# EAGLE library part 6250XX22121_62502622121 (library WR-BHD)
WR-BHD 2.00 mm Male Characteristics Rated current: 2 A Working Voltage: 250 V UL approval: E323964 UL94-V0 Applications Industrial Production lines Details see: www.we-online.com/components/products/WTB_WR_BHD_BOX_HEADER_2_00MM_MALE Updated by Ella 2026-09-16 2026 (C) Würth Elektronik
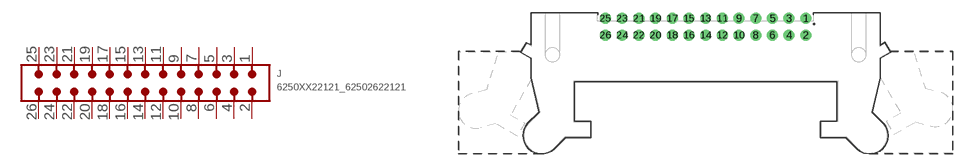
[diagram p20: symbol with the pads of 62502622121; footprint 62502622121]

Designator prefix J

## 6250XX22121_62502622121 (CATEGORY: Connectors; DATASHEET: https://www.we-online.com/redexpert/spec/62502622121?ae; GENDER: Male; LENGTH: 41.7 mm; MANUFACTURER: Würth Elektronik; MOUNT: THT; MPN: 62502622121; OPERATING_TEMPERATURE: -40 °C up to +125 °C; PACKAGING: Tray; PINS: 26; PITCH: 2mm; RATED_CURRENT: 2 A; SIZE: THT Angled; TYPE: Angled; VALUE: 62502622121; VERSION: With locking lever)  [62502622121]
1  1  pas
2  2  pas
3  3  pas
4  4  pas
5  5  pas
6  6  pas
7  7  pas
8  8  pas
9  9  pas
10  10  pas
11  11  pas
12  12  pas
13  13  pas
14  14  pas
15  15  pas
16  16  pas
17  17  pas
18  18  pas
19  19  pas
20  20  pas
21  21  pas
22  22  pas
23  23  pas
24  24  pas
25  25  pas
26  26  pas

## Footprint 62502622121 (pad centres in mm)
WR-BHD Wire-to-Board Connectors, 2mm, Male, THT Angled, 26pins
drill 0.8: 1 12,3.4; 2 12,1.4; 3 10,3.4; 4 10,1.4; 5 8,3.4; 6 8,1.4; 7 6,3.4; 8 6,1.4; 9 4,3.4; 10 4,1.4; 11 2,3.4; 12 2,1.4; 13 0,3.4; 14 0,1.4; 15 -2,3.4; 16 -2,1.4; 17 -4,3.4; 18 -4,1.4; 19 -6,3.4; 20 -6,1.4; 21 -8,3.4; 22 -8,1.4; 23 -10,3.4; 24 -10,1.4; 25 -12,3.4; 26 -12,1.4